# Altium footprint library S4BXHALFSN.PcbLib: 1 footprints
Each footprint in its own frame and in the unit in brackets; x right, y up, seen from the top. Pads: shape width x height; smd on the part's side, far side on the other; paste and mask are expansions set on the pad; w line width, h text height; cw(c..) or ccw(c..) is an arc to the next point about the centre after c.
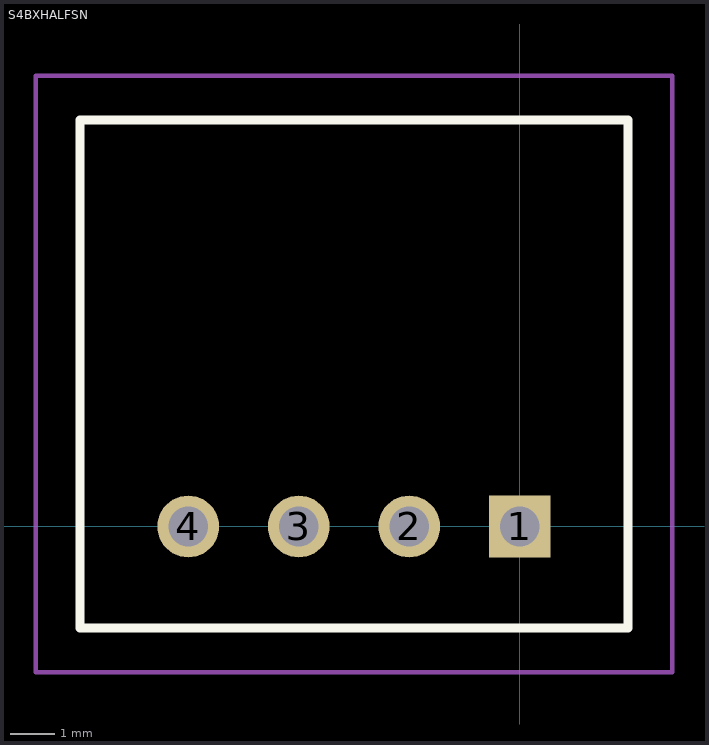
[diagram p0: the footprint, top view; thin cyan lines are the x and y axes]

## S4BXHALFSN [mm]
pads (4):
  rect 1.4x1.4 hole 0.9: 1(0,0)
  round 1.4 hole 0.9: 2(-2.5,0) 3(-5,0) 4(-7.5,0)
Top Overlay:
  lines w0.2: -9.95,-2.3 -9.95,9.2 2.45,9.2 2.45,-2.3 -9.95,-2.3
Mechanical 15:
  lines w0.1: -9.95,-2.3 2.45,-2.3 2.45,9.2 -9.95,9.2 -9.95,-2.3
Mechanical 20:
  lines w0.1: -10.95,-3.3 -10.95,10.2 3.45,10.2 3.45,-3.3 -10.95,-3.3